# Altium integrated library Linear Technology Power Management PMIC Multifunction.IntLib: 360 symbols (part 4 of 42)
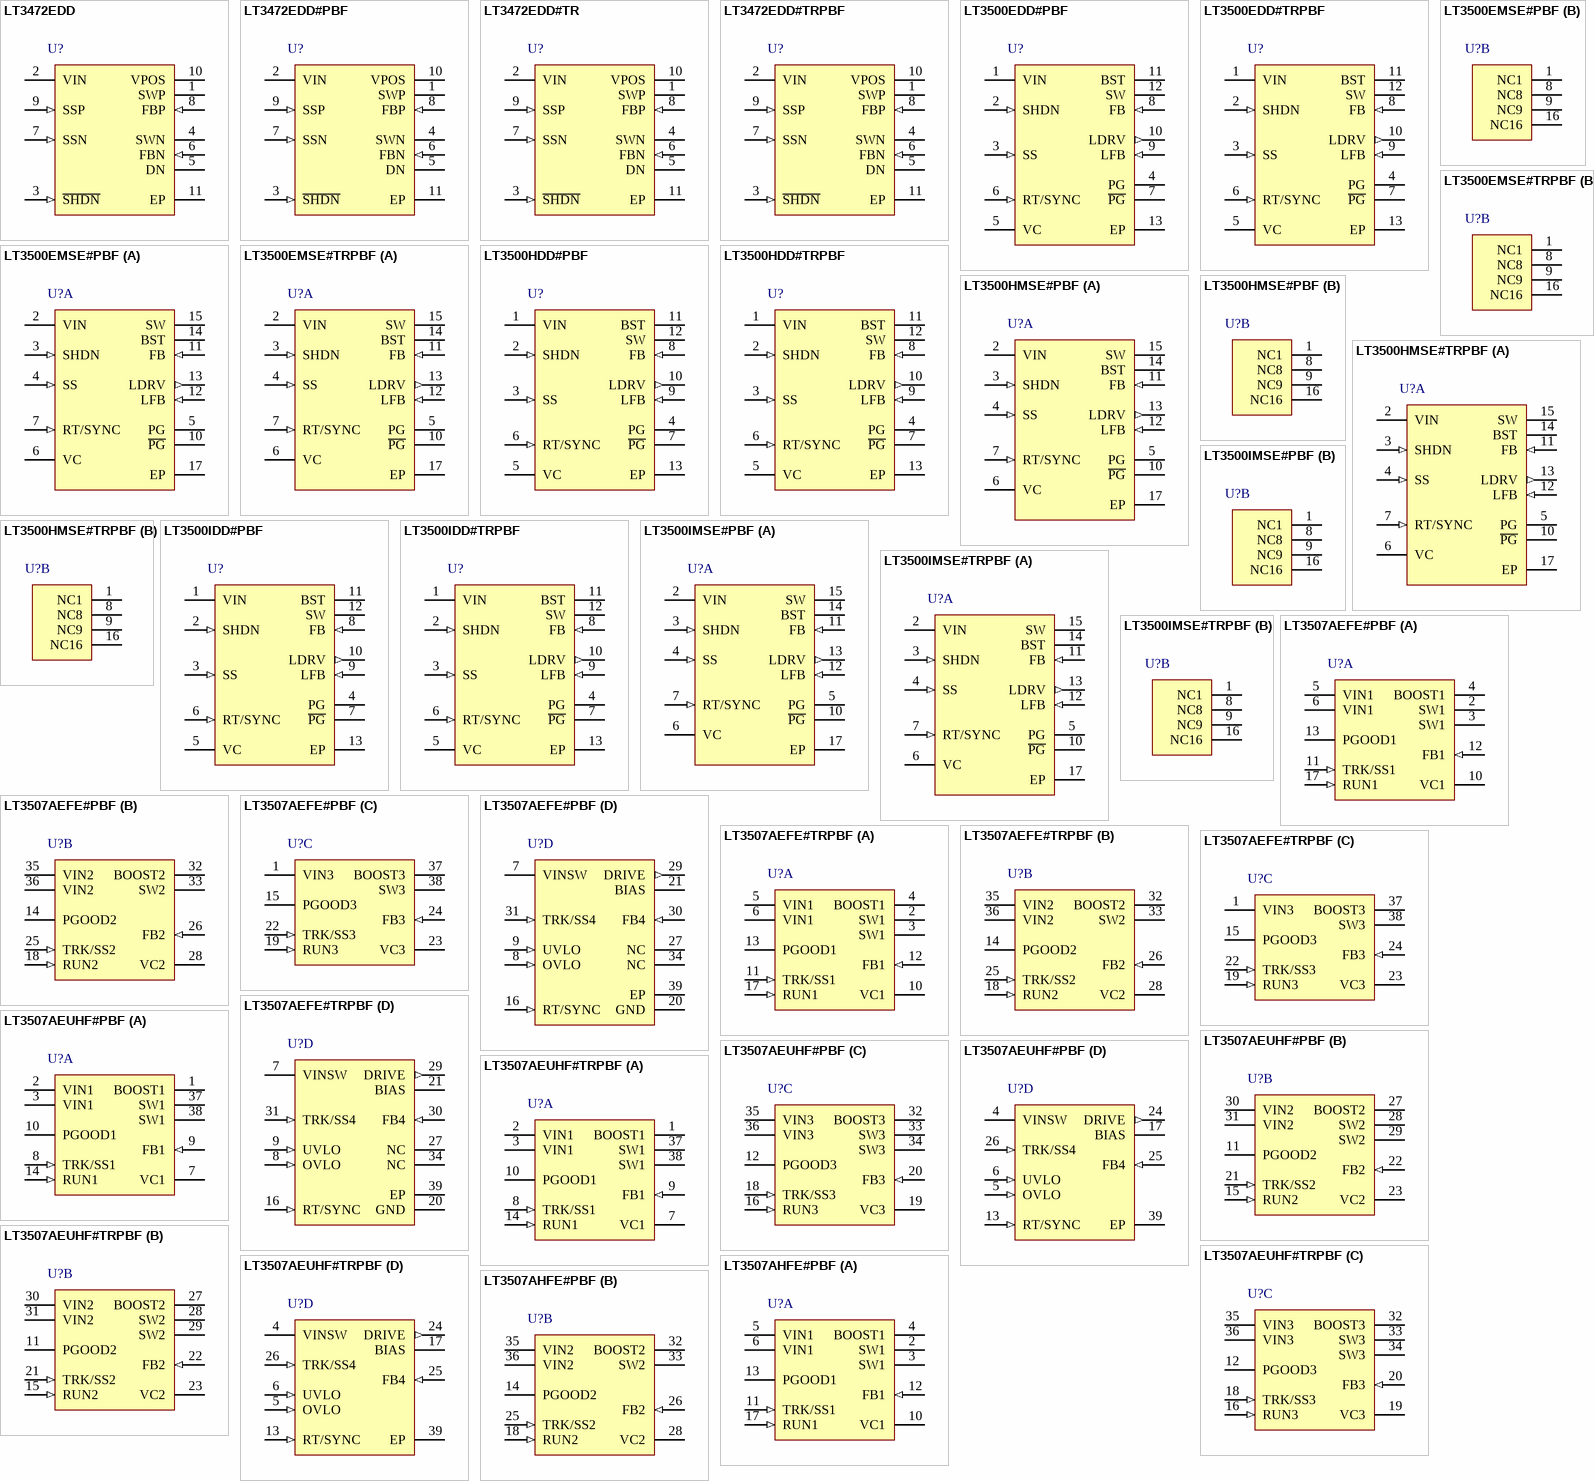
[diagram p21: symbols LT3472EDD to LT3507AHFE#PBF]

## LT3500HMSE#PBF
designator U?
Monolithic 2 A Step-Down Regulator Plus Linear Regulator / Controller, 3 to 36 V Vin, 16-pin SOP (MSE-16-EDP), -40 to 150 degC, Pb-Free; Manufacturer: Linear Technology; PartNumber: LT3500HMSE#PBF; Number of Outputs: 2; Vin Max(V): 36; Vin Min(V): 3; DatasheetVersion: Rev. C; PackageVersion: Rev. F, 05/2013; PackageReference: MSE-16; PackageDescription: 16-Pin Plastic MSOP, Exposed Die Pad, Body 4.039 x 3 mm, Pitch 0.5 mm; Supplier 1: Digi-Key; Supplier Part Number 1: LT3500HMSE#PBF-ND; Supplier 2: Newark; Supplier Part Number 2: 31P7613; RoHS: TRUE; Mounting Technology: Surface Mount; ComponentLink1Description: Manufacturer URL; ComponentLink1URL: http://www.linear.com/; ComponentLink2Description: Datasheet; ComponentLink2URL: http://cds.linear.com/docs/en/datasheet/3500fc.pdf; ComponentLink3Description: Package Specification; ComponentLink3URL: http://cds.linear.com/docs/en/packaging/05081667_F_MSE16.pdf
footprint LT-MSE-16-EDP_N (SOP, 16-Leads, Body 4.1x3.1mm, Pitch 0.5mm, Thermal Pad 2.95x1.76mm, IPC Medium Density)
footprint LT-MSE-16-EDP_L (SOP, 16-Leads, Body 4.1x3.1mm, Pitch 0.5mm, Thermal Pad 2.95x1.76mm, IPC High Density)
footprint LT-MSE-16-EDP_M (SOP, 16-Leads, Body 4.1x3.1mm, Pitch 0.5mm, Thermal Pad 2.95x1.76mm, IPC Low Density)
part A pins: 2 VIN (power) "The VIN pin powers the internal control circuitry and is monitored by an undervoltage comparator. The VIN pin is also connected to the collectors of the internal power NPN switch and linear output NPN. The VIN pin has high (See Datasheet)", 3 SHDN (in) "The SHDN pin is used to shut down the LT3500 and reduce quiescent current to a typical value of 12uA. The accurate 0.76V threshold and input current hysteresis can be used as an undervoltage lockout, preventing the regulator (See Datasheet)", 4 SS (in) "The SS pin is used to control the slew rate of the output of both the switching and linear regulators. A single capacitor from the SS pin to ground determines the regulators?ramp rate. For soft-start details see th(See Datasheet)", 5 PG (oc) "The power good pin is an open-collector output that sinks current when the FB or LFB falls below 90% of its nominal regulating voltage. For VIN above 2V, its output state remains true, although during SHDN, VIN undervoltage (See Datasheet)", 6 VC "The VC pin is the output of the error amplifier and the input to the peak switch current comparator. It is normally used for frequency compensation, but can also be used as a current clamp or control loop override. If the (See Datasheet)", 7 RT/SYNC (in) "This RT/SYNC pin provides two modes of setting the constant switch frequency. Connecting a resistor from the RT/SYNC pin to ground will set the RT/SYNC pin to a typical value of 1V. The resultant switching frequency will be (See Datasheet)", 10 ~{PG} (oc) "The power good bar pin is an open-collector output that sinks current when the FB or LFB rises above 90% of its nominal regulating voltage.", 11 FB (in) "The FB pin is the negative input to the switcher error amplifier. The output switches to regulate this pin to 0.8V with respect to the exposed ground pad. Bias current flows out of the FB pin.", 12 LFB (in) "The LFB pin is the negative input to the linear error amplifier. The LDRV pin servo’s to regulate this pin to 0.8V with respect to the exposed ground pad. Bias current flows out of the LFB pin.", 13 LDRV (out) "The LDRV pin is the emitter of an internal NPN that can be confi gured as an output of a linear regulator or as the drive for an external NPN high current regulator. Current flows out of the LDRV pin when the LFB pin voltage (See Datasheet)", 14 BST "The BST pin provides a higher than VIN base drive to the power NPN to ensure a low switch drop. A comparator to VIN imposes a minimum off time on the SW pin if the BST pin voltage drops too low. Forcing a SW off time allows (See Datasheet)", 15 SW (power) "The SW pin is the emitter of the on-chip power NPN. At switch off, the inductor will drive this pin below ground with a high dV/dt. An external catch diode to ground, close to the SW pin and respective VIN decoupling (See Datasheet)", 17 EP (power) "GND. The exposed pad is the only ground connection for the device. The exposed pad should be soldered to a large copper area to reduce thermal resistance. The GND pin also serves as small-signal ground. For ideal operation (See Datasheet)"
part B pins: 1 NC1 "No Connection. The NC pins are electrically isolated from the LT3500. The NC pins may be connected to PCB traces to aid PCB layout.", 8 NC8 "No Connection. The NC pins are electrically isolated from the LT3500. The NC pins may be connected to PCB traces to aid PCB layout.", 9 NC9 "No Connection. The NC pins are electrically isolated from the LT3500. The NC pins may be connected to PCB traces to aid PCB layout.", 16 NC16 "No Connection. The NC pins are electrically isolated from the LT3500. The NC pins may be connected to PCB traces to aid PCB layout."

## LT3500HMSE#TRPBF
designator U?
Monolithic 2 A Step-Down Regulator Plus Linear Regulator / Controller, 3 to 36 V Vin, 16-pin SOP (MSE-16-EDP), -40 to 150 degC, Pb-Free, Tape and Reel; Manufacturer: Linear Technology; PartNumber: LT3500HMSE#TRPBF; Number of Outputs: 2; Vin Max(V): 36; Vin Min(V): 3; DatasheetVersion: Rev. C; PackageVersion: Rev. F, 05/2013; PackageReference: MSE-16; PackageDescription: 16-Pin Plastic MSOP, Exposed Die Pad, Body 4.039 x 3 mm, Pitch 0.5 mm; Supplier 1: Digi-Key; Supplier Part Number 1: LT3500HMSE#TRPBF-ND; Packing: Tape and Reel; RoHS: TRUE; Mounting Technology: Surface Mount; ComponentLink1Description: Manufacturer URL; ComponentLink1URL: http://www.linear.com/; ComponentLink2Description: Datasheet; ComponentLink2URL: http://cds.linear.com/docs/en/datasheet/3500fc.pdf; ComponentLink3Description: Package Specification; ComponentLink3URL: http://cds.linear.com/docs/en/packaging/05081667_F_MSE16.pdf
footprint LT-MSE-16-EDP_N (SOP, 16-Leads, Body 4.1x3.1mm, Pitch 0.5mm, Thermal Pad 2.95x1.76mm, IPC Medium Density)
footprint LT-MSE-16-EDP_L (SOP, 16-Leads, Body 4.1x3.1mm, Pitch 0.5mm, Thermal Pad 2.95x1.76mm, IPC High Density)
footprint LT-MSE-16-EDP_M (SOP, 16-Leads, Body 4.1x3.1mm, Pitch 0.5mm, Thermal Pad 2.95x1.76mm, IPC Low Density)
part A pins: 2 VIN (power) "The VIN pin powers the internal control circuitry and is monitored by an undervoltage comparator. The VIN pin is also connected to the collectors of the internal power NPN switch and linear output NPN. The VIN pin has high (See Datasheet)", 3 SHDN (in) "The SHDN pin is used to shut down the LT3500 and reduce quiescent current to a typical value of 12uA. The accurate 0.76V threshold and input current hysteresis can be used as an undervoltage lockout, preventing the regulator (See Datasheet)", 4 SS (in) "The SS pin is used to control the slew rate of the output of both the switching and linear regulators. A single capacitor from the SS pin to ground determines the regulators?ramp rate. For soft-start details see th(See Datasheet)", 5 PG (oc) "The power good pin is an open-collector output that sinks current when the FB or LFB falls below 90% of its nominal regulating voltage. For VIN above 2V, its output state remains true, although during SHDN, VIN undervoltage (See Datasheet)", 6 VC "The VC pin is the output of the error amplifier and the input to the peak switch current comparator. It is normally used for frequency compensation, but can also be used as a current clamp or control loop override. If the (See Datasheet)", 7 RT/SYNC (in) "This RT/SYNC pin provides two modes of setting the constant switch frequency. Connecting a resistor from the RT/SYNC pin to ground will set the RT/SYNC pin to a typical value of 1V. The resultant switching frequency will be (See Datasheet)", 10 ~{PG} (oc) "The power good bar pin is an open-collector output that sinks current when the FB or LFB rises above 90% of its nominal regulating voltage.", 11 FB (in) "The FB pin is the negative input to the switcher error amplifier. The output switches to regulate this pin to 0.8V with respect to the exposed ground pad. Bias current flows out of the FB pin.", 12 LFB (in) "The LFB pin is the negative input to the linear error amplifier. The LDRV pin servo’s to regulate this pin to 0.8V with respect to the exposed ground pad. Bias current flows out of the LFB pin.", 13 LDRV (out) "The LDRV pin is the emitter of an internal NPN that can be confi gured as an output of a linear regulator or as the drive for an external NPN high current regulator. Current flows out of the LDRV pin when the LFB pin voltage (See Datasheet)", 14 BST "The BST pin provides a higher than VIN base drive to the power NPN to ensure a low switch drop. A comparator to VIN imposes a minimum off time on the SW pin if the BST pin voltage drops too low. Forcing a SW off time allows (See Datasheet)", 15 SW (power) "The SW pin is the emitter of the on-chip power NPN. At switch off, the inductor will drive this pin below ground with a high dV/dt. An external catch diode to ground, close to the SW pin and respective VIN decoupling (See Datasheet)", 17 EP (power) "GND. The exposed pad is the only ground connection for the device. The exposed pad should be soldered to a large copper area to reduce thermal resistance. The GND pin also serves as small-signal ground. For ideal operation (See Datasheet)"
part B pins: 1 NC1 "No Connection. The NC pins are electrically isolated from the LT3500. The NC pins may be connected to PCB traces to aid PCB layout.", 8 NC8 "No Connection. The NC pins are electrically isolated from the LT3500. The NC pins may be connected to PCB traces to aid PCB layout.", 9 NC9 "No Connection. The NC pins are electrically isolated from the LT3500. The NC pins may be connected to PCB traces to aid PCB layout.", 16 NC16 "No Connection. The NC pins are electrically isolated from the LT3500. The NC pins may be connected to PCB traces to aid PCB layout."

## LT3500IDD#PBF
designator U?
Monolithic 2 A Step-Down Regulator Plus Linear Regulator / Controller, 3 to 36 V Vin, 12-pin SON (DD-12), -40 to 125 degC, Pb-Free; Manufacturer: Linear Technology; PartNumber: LT3500IDD#PBF; Number of Outputs: 2; Vin Max(V): 36; Vin Min(V): 3; DatasheetVersion: Rev. C; PackageVersion: Rev. A, 06/2010; PackageReference: DD-12; PackageDescription: 12-Pin Plastic DFN, Body 3 x 3 mm, Pitch 0.45 mm; Supplier 1: Digi-Key; Supplier Part Number 1: LT3500IDD#PBF-ND; Supplier 2: Newark; Supplier Part Number 2: 57M8450; RoHS: TRUE; Mounting Technology: Surface Mount; ComponentLink1Description: Manufacturer URL; ComponentLink1URL: http://www.linear.com/; ComponentLink2Description: Datasheet; ComponentLink2URL: http://cds.linear.com/docs/en/datasheet/3500fc.pdf; ComponentLink3Description: Package Specification; ComponentLink3URL: http://cds.linear.com/docs/en/packaging/DFN_12_05-08-1725.pdf
footprint LT-DD-12_V (SON, 12-Leads, Body 3x3mm, Pitch 0.45mm, Thermal Pad 2.38x1.65mm)
pins: 1 VIN (power) "The VIN pin powers the internal control circuitry and is monitored by an undervoltage comparator. The VIN pin is also connected to the collectors of the internal power NPN switch and linear output NPN. The VIN pin has high (See Datasheet)", 2 SHDN (in), 3 SS (in) "The SS pin is used to control the slew rate of the output of both the switching and linear regulators. A single capacitor from the SS pin to ground determines the regulators’ ramp rate. For soft-start details see th(See Datasheet)", 4 PG (oc) "The power good pin is an open-collector output that sinks current when the FB or LFB falls below 90% of its nominal regulating voltage. For VIN above 2V, its output state remains true, although during SHDN, VIN undervoltage (See Datasheet)", 5 VC "The VC pin is the output of the error amplifier and the input to the peak switch current comparator. It is normally used for frequency compensation, but can also be used as a current clamp or control loop override. If the (See Datasheet)", 6 RT/SYNC (in) "This RT/SYNC pin provides two modes of setting the constant switch frequency. Connecting a resistor from the RT/SYNC pin to ground will set the RT/SYNC pin to a typical value of 1V. The resultant switching frequency will be (See Datasheet)", 7 ~{PG} (oc) "The power good bar pin is an open-collector output that sinks current when the FB or LFB rises above 90% of its nominal regulating voltage.", 8 FB (in) "The FB pin is the negative input to the switcher error amplifier. The output switches to regulate this pin to 0.8V with respect to the exposed ground pad. Bias current flows out of the FB pin.", 9 LFB (in) "The LFB pin is the negative input to the linear error amplifier. The LDRV pin servo’s to regulate this pin to 0.8V with respect to the exposed ground pad. Bias current flows out of the LFB pin.", 10 LDRV (out) "The LDRV pin is the emitter of an internal NPN that can be configured as an output of a linear regulator or as the drive for an external NPN high current regulator. Current fl ows out of the LDRV pin when the LFB pin voltage (See Datasheet)", 11 BST "The BST pin provides a higher than VIN base drive to the power NPN to ensure a low switch drop. A comparator to VIN imposes a minimum off time on the SW pin if the BST pin voltage drops too low. Forcing a SW off time allows (See Datasheet)", 12 SW (power) "The SW pin is the emitter of the on-chip power NPN. At switch off, the inductor will drive this pin below ground with a high dV/dt. An external catch diode to ground, close to the SW pin and respective VIN decoupling (See Datasheet)", 13 EP (power) "GND. The Exposed Pad is the only ground connection for the device. The Exposed Pad should be soldered to a large copper area to reduce thermal resistance. The GND pin also serves as small-signal ground. For ideal operation (See Datasheet)"

## LT3500IDD#TRPBF
designator U?
Monolithic 2 A Step-Down Regulator Plus Linear Regulator / Controller, 3 to 36 V Vin, 12-pin SON (DD-12), -40 to 125 degC, Pb-Free, Tape and Reel; Manufacturer: Linear Technology; PartNumber: LT3500IDD#TRPBF; Number of Outputs: 2; Vin Max(V): 36; Vin Min(V): 3; DatasheetVersion: Rev. C; PackageVersion: Rev. A, 06/2010; PackageReference: DD-12; PackageDescription: 12-Pin Plastic DFN, Body 3 x 3 mm, Pitch 0.45 mm; Supplier 1: Digi-Key; Supplier Part Number 1: LT3500IDD#TRPBF-ND; Packing: Tape and Reel; RoHS: TRUE; Mounting Technology: Surface Mount; ComponentLink1Description: Manufacturer URL; ComponentLink1URL: http://www.linear.com/; ComponentLink2Description: Datasheet; ComponentLink2URL: http://cds.linear.com/docs/en/datasheet/3500fc.pdf; ComponentLink3Description: Package Specification; ComponentLink3URL: http://cds.linear.com/docs/en/packaging/DFN_12_05-08-1725.pdf
footprint LT-DD-12_V (SON, 12-Leads, Body 3x3mm, Pitch 0.45mm, Thermal Pad 2.38x1.65mm)
pins: 1 VIN (power) "The VIN pin powers the internal control circuitry and is monitored by an undervoltage comparator. The VIN pin is also connected to the collectors of the internal power NPN switch and linear output NPN. The VIN pin has high (See Datasheet)", 2 SHDN (in), 3 SS (in) "The SS pin is used to control the slew rate of the output of both the switching and linear regulators. A single capacitor from the SS pin to ground determines the regulators’ ramp rate. For soft-start details see th(See Datasheet)", 4 PG (oc) "The power good pin is an open-collector output that sinks current when the FB or LFB falls below 90% of its nominal regulating voltage. For VIN above 2V, its output state remains true, although during SHDN, VIN undervoltage (See Datasheet)", 5 VC "The VC pin is the output of the error amplifier and the input to the peak switch current comparator. It is normally used for frequency compensation, but can also be used as a current clamp or control loop override. If the (See Datasheet)", 6 RT/SYNC (in) "This RT/SYNC pin provides two modes of setting the constant switch frequency. Connecting a resistor from the RT/SYNC pin to ground will set the RT/SYNC pin to a typical value of 1V. The resultant switching frequency will be (See Datasheet)", 7 ~{PG} (oc) "The power good bar pin is an open-collector output that sinks current when the FB or LFB rises above 90% of its nominal regulating voltage.", 8 FB (in) "The FB pin is the negative input to the switcher error amplifier. The output switches to regulate this pin to 0.8V with respect to the exposed ground pad. Bias current flows out of the FB pin.", 9 LFB (in) "The LFB pin is the negative input to the linear error amplifier. The LDRV pin servo’s to regulate this pin to 0.8V with respect to the exposed ground pad. Bias current flows out of the LFB pin.", 10 LDRV (out) "The LDRV pin is the emitter of an internal NPN that can be configured as an output of a linear regulator or as the drive for an external NPN high current regulator. Current fl ows out of the LDRV pin when the LFB pin voltage (See Datasheet)", 11 BST "The BST pin provides a higher than VIN base drive to the power NPN to ensure a low switch drop. A comparator to VIN imposes a minimum off time on the SW pin if the BST pin voltage drops too low. Forcing a SW off time allows (See Datasheet)", 12 SW (power) "The SW pin is the emitter of the on-chip power NPN. At switch off, the inductor will drive this pin below ground with a high dV/dt. An external catch diode to ground, close to the SW pin and respective VIN decoupling (See Datasheet)", 13 EP (power) "GND. The Exposed Pad is the only ground connection for the device. The Exposed Pad should be soldered to a large copper area to reduce thermal resistance. The GND pin also serves as small-signal ground. For ideal operation (See Datasheet)"

## LT3500IMSE#PBF
designator U?
Monolithic 2 A Step-Down Regulator Plus Linear Regulator / Controller, 3 to 36 V Vin, 16-pin SOP (MSE-16-EDP), -40 to 125 degC, Pb-Free; Manufacturer: Linear Technology; PartNumber: LT3500IMSE#PBF; Number of Outputs: 2; Vin Max(V): 36; Vin Min(V): 3; DatasheetVersion: Rev. C; PackageVersion: Rev. F, 05/2013; PackageReference: MSE-16; PackageDescription: 16-Pin Plastic MSOP, Exposed Die Pad, Body 4.039 x 3 mm, Pitch 0.5 mm; Supplier 1: Digi-Key; Supplier Part Number 1: LT3500IMSE#PBF-ND; Supplier 2: Newark; Supplier Part Number 2: 31P7615; RoHS: TRUE; Mounting Technology: Surface Mount; ComponentLink1Description: Manufacturer URL; ComponentLink1URL: http://www.linear.com/; ComponentLink2Description: Datasheet; ComponentLink2URL: http://cds.linear.com/docs/en/datasheet/3500fc.pdf; ComponentLink3Description: Package Specification; ComponentLink3URL: http://cds.linear.com/docs/en/packaging/05081667_F_MSE16.pdf
footprint LT-MSE-16-EDP_N (SOP, 16-Leads, Body 4.1x3.1mm, Pitch 0.5mm, Thermal Pad 2.95x1.76mm, IPC Medium Density)
footprint LT-MSE-16-EDP_L (SOP, 16-Leads, Body 4.1x3.1mm, Pitch 0.5mm, Thermal Pad 2.95x1.76mm, IPC High Density)
footprint LT-MSE-16-EDP_M (SOP, 16-Leads, Body 4.1x3.1mm, Pitch 0.5mm, Thermal Pad 2.95x1.76mm, IPC Low Density)
part A pins: 2 VIN (power) "The VIN pin powers the internal control circuitry and is monitored by an undervoltage comparator. The VIN pin is also connected to the collectors of the internal power NPN switch and linear output NPN. The VIN pin has high (See Datasheet)", 3 SHDN (in) "The SHDN pin is used to shut down the LT3500 and reduce quiescent current to a typical value of 12uA. The accurate 0.76V threshold and input current hysteresis can be used as an undervoltage lockout, preventing the regulator (See Datasheet)", 4 SS (in) "The SS pin is used to control the slew rate of the output of both the switching and linear regulators. A single capacitor from the SS pin to ground determines the regulators?ramp rate. For soft-start details see th(See Datasheet)", 5 PG (oc) "The power good pin is an open-collector output that sinks current when the FB or LFB falls below 90% of its nominal regulating voltage. For VIN above 2V, its output state remains true, although during SHDN, VIN undervoltage (See Datasheet)", 6 VC "The VC pin is the output of the error amplifier and the input to the peak switch current comparator. It is normally used for frequency compensation, but can also be used as a current clamp or control loop override. If the (See Datasheet)", 7 RT/SYNC (in) "This RT/SYNC pin provides two modes of setting the constant switch frequency. Connecting a resistor from the RT/SYNC pin to ground will set the RT/SYNC pin to a typical value of 1V. The resultant switching frequency will be (See Datasheet)", 10 ~{PG} (oc) "The power good bar pin is an open-collector output that sinks current when the FB or LFB rises above 90% of its nominal regulating voltage.", 11 FB (in) "The FB pin is the negative input to the switcher error amplifier. The output switches to regulate this pin to 0.8V with respect to the exposed ground pad. Bias current flows out of the FB pin.", 12 LFB (in) "The LFB pin is the negative input to the linear error amplifier. The LDRV pin servo’s to regulate this pin to 0.8V with respect to the exposed ground pad. Bias current flows out of the LFB pin.", 13 LDRV (out) "The LDRV pin is the emitter of an internal NPN that can be confi gured as an output of a linear regulator or as the drive for an external NPN high current regulator. Current flows out of the LDRV pin when the LFB pin voltage (See Datasheet)", 14 BST "The BST pin provides a higher than VIN base drive to the power NPN to ensure a low switch drop. A comparator to VIN imposes a minimum off time on the SW pin if the BST pin voltage drops too low. Forcing a SW off time allows (See Datasheet)", 15 SW (power) "The SW pin is the emitter of the on-chip power NPN. At switch off, the inductor will drive this pin below ground with a high dV/dt. An external catch diode to ground, close to the SW pin and respective VIN decoupling (See Datasheet)", 17 EP (power) "GND. The exposed pad is the only ground connection for the device. The exposed pad should be soldered to a large copper area to reduce thermal resistance. The GND pin also serves as small-signal ground. For ideal operation (See Datasheet)"
part B pins: 1 NC1 "No Connection. The NC pins are electrically isolated from the LT3500. The NC pins may be connected to PCB traces to aid PCB layout.", 8 NC8 "No Connection. The NC pins are electrically isolated from the LT3500. The NC pins may be connected to PCB traces to aid PCB layout.", 9 NC9 "No Connection. The NC pins are electrically isolated from the LT3500. The NC pins may be connected to PCB traces to aid PCB layout.", 16 NC16 "No Connection. The NC pins are electrically isolated from the LT3500. The NC pins may be connected to PCB traces to aid PCB layout."

## LT3500IMSE#TRPBF
designator U?
Monolithic 2 A Step-Down Regulator Plus Linear Regulator / Controller, 3 to 36 V Vin, 16-pin SOP (MSE-16-EDP), -40 to 125 degC, Pb-Free, Tape and Reel; Manufacturer: Linear Technology; PartNumber: LT3500IMSE#TRPBF; Number of Outputs: 2; Vin Max(V): 36; Vin Min(V): 3; DatasheetVersion: Rev. C; PackageVersion: Rev. F, 05/2013; PackageReference: MSE-16; PackageDescription: 16-Pin Plastic MSOP, Exposed Die Pad, Body 4.039 x 3 mm, Pitch 0.5 mm; Supplier 1: Digi-Key; Supplier Part Number 1: LT3500IMSE#TRPBF-ND; Packing: Tape and Reel; RoHS: TRUE; Mounting Technology: Surface Mount; ComponentLink1Description: Manufacturer URL; ComponentLink1URL: http://www.linear.com/; ComponentLink2Description: Datasheet; ComponentLink2URL: http://cds.linear.com/docs/en/datasheet/3500fc.pdf; ComponentLink3Description: Package Specification; ComponentLink3URL: http://cds.linear.com/docs/en/packaging/05081667_F_MSE16.pdf
footprint LT-MSE-16-EDP_N (SOP, 16-Leads, Body 4.1x3.1mm, Pitch 0.5mm, Thermal Pad 2.95x1.76mm, IPC Medium Density)
footprint LT-MSE-16-EDP_L (SOP, 16-Leads, Body 4.1x3.1mm, Pitch 0.5mm, Thermal Pad 2.95x1.76mm, IPC High Density)
footprint LT-MSE-16-EDP_M (SOP, 16-Leads, Body 4.1x3.1mm, Pitch 0.5mm, Thermal Pad 2.95x1.76mm, IPC Low Density)
part A pins: 2 VIN (power) "The VIN pin powers the internal control circuitry and is monitored by an undervoltage comparator. The VIN pin is also connected to the collectors of the internal power NPN switch and linear output NPN. The VIN pin has high (See Datasheet)", 3 SHDN (in) "The SHDN pin is used to shut down the LT3500 and reduce quiescent current to a typical value of 12uA. The accurate 0.76V threshold and input current hysteresis can be used as an undervoltage lockout, preventing the regulator (See Datasheet)", 4 SS (in) "The SS pin is used to control the slew rate of the output of both the switching and linear regulators. A single capacitor from the SS pin to ground determines the regulators?ramp rate. For soft-start details see th(See Datasheet)", 5 PG (oc) "The power good pin is an open-collector output that sinks current when the FB or LFB falls below 90% of its nominal regulating voltage. For VIN above 2V, its output state remains true, although during SHDN, VIN undervoltage (See Datasheet)", 6 VC "The VC pin is the output of the error amplifier and the input to the peak switch current comparator. It is normally used for frequency compensation, but can also be used as a current clamp or control loop override. If the (See Datasheet)", 7 RT/SYNC (in) "This RT/SYNC pin provides two modes of setting the constant switch frequency. Connecting a resistor from the RT/SYNC pin to ground will set the RT/SYNC pin to a typical value of 1V. The resultant switching frequency will be (See Datasheet)", 10 ~{PG} (oc) "The power good bar pin is an open-collector output that sinks current when the FB or LFB rises above 90% of its nominal regulating voltage.", 11 FB (in) "The FB pin is the negative input to the switcher error amplifier. The output switches to regulate this pin to 0.8V with respect to the exposed ground pad. Bias current flows out of the FB pin.", 12 LFB (in) "The LFB pin is the negative input to the linear error amplifier. The LDRV pin servo’s to regulate this pin to 0.8V with respect to the exposed ground pad. Bias current flows out of the LFB pin.", 13 LDRV (out) "The LDRV pin is the emitter of an internal NPN that can be confi gured as an output of a linear regulator or as the drive for an external NPN high current regulator. Current flows out of the LDRV pin when the LFB pin voltage (See Datasheet)", 14 BST "The BST pin provides a higher than VIN base drive to the power NPN to ensure a low switch drop. A comparator to VIN imposes a minimum off time on the SW pin if the BST pin voltage drops too low. Forcing a SW off time allows (See Datasheet)", 15 SW (power) "The SW pin is the emitter of the on-chip power NPN. At switch off, the inductor will drive this pin below ground with a high dV/dt. An external catch diode to ground, close to the SW pin and respective VIN decoupling (See Datasheet)", 17 EP (power) "GND. The exposed pad is the only ground connection for the device. The exposed pad should be soldered to a large copper area to reduce thermal resistance. The GND pin also serves as small-signal ground. For ideal operation (See Datasheet)"
part B pins: 1 NC1 "No Connection. The NC pins are electrically isolated from the LT3500. The NC pins may be connected to PCB traces to aid PCB layout.", 8 NC8 "No Connection. The NC pins are electrically isolated from the LT3500. The NC pins may be connected to PCB traces to aid PCB layout.", 9 NC9 "No Connection. The NC pins are electrically isolated from the LT3500. The NC pins may be connected to PCB traces to aid PCB layout.", 16 NC16 "No Connection. The NC pins are electrically isolated from the LT3500. The NC pins may be connected to PCB traces to aid PCB layout."

## LT3507AEFE#PBF
designator U?
Triple Monolithic Step-Down Regulator with LDO, Improved Output Current, 4 to 36 V Vin, 38-pin SOP (FE-38-EPV-AA), -40 to 125 degC, Pb-Free; Manufacturer: Linear Technology; PartNumber: LT3507AEFE#PBF; Number of Outputs: 4; Vin Max(V): 36; PackageVersion: Rev. C, 09/2010; PackageReference: FE-38; PackageDescription: 38-Pin Plastic TSSOP, Body 9.7 x 4.4 mm, Pitch 0.5 mm; Supplier 1: Digi-Key; Supplier Part Number 1: LT3507AEFE#PBF-ND; Supplier 2: Farnell; Supplier Part Number 2: 2009065; Supplier 3: Newark; Supplier Part Number 3: 59T9377; RoHS: TRUE; Vin Min(V): 4; Mounting Technology: Surface Mount; ComponentLink1Description: Manufacturer URL; ComponentLink1URL: http://www.linear.com/; ComponentLink2Description: Datasheet; ComponentLink2URL: http://cds.linear.com/docs/en/datasheet/3507af.pdf; ComponentLink3Description: Package Specification; ComponentLink3URL: http://cds.linear.com/docs/en/packaging/TSSOP_38_05-08-1772.pdf
footprint LT-FE-38-EPV-AA_N (SOP, 38-Leads, Body 9.8x4.5mm, Pitch 0.5mm, Thermal Pad 4.75x2.74mm, IPC Medium Density)
footprint LT-FE-38-EPV-AA_L (SOP, 38-Leads, Body 9.8x4.5mm, Pitch 0.5mm, Thermal Pad 4.75x2.74mm, IPC High Density)
footprint LT-FE-38-EPV-AA_M (SOP, 38-Leads, Body 9.8x4.5mm, Pitch 0.5mm, Thermal Pad 4.75x2.74mm, IPC Low Density)
part A pins: 2 SW1 (power) "The SW pins are the outputs of the internal power switches. Connect these pins to the inductors and switching diodes", 3 SW1 (power) "The SW pins are the outputs of the internal power switches. Connect these pins to the inductors and switching diodes", 4 BOOST1 "The BOOST pins are used to provide drive voltages, higher than the input voltage, to the internal bipolar NPN power switches. These pins must be tied through a diode from VOUT, VIN or another supply greater than 2.5V.", 5 VIN1 (power) "The VIN1 pins supply power to the internal switch of the 2.7A regulator and to the LT3507A’s internal reference and start-up circuitry. These pins must be locally bypassed.", 6 VIN1 (power) "The VIN1 pins supply power to the internal switch of the 2.7A regulator and to the LT3507A’s internal reference and start-up circuitry. These pins must be locally bypassed.", 10 VC1 "The VC pins are the outputs of the internal error amps. The voltages on these pins control the peak switch currents. These pins are normally used to compensate the control loops. Each switching regulator can be shut down by (See Datasheet)", 11 TRK/SS1 (in) "The TRK/SS pins allow a regulator to track the output of another regulator. When the TRK/SS pin is below 0.8V, the FB pin regulates to the TRK/SS voltage. This pin souces 1.25uA and can be used as a soft-start by connecting (See Datasheet)", 12 FB1 (in) "The FB pins are the negative inputs of the error amplifiers. The LT3507A regulates each feedback pin to the lesser of 0.8V or the TRK/SS pin voltage. Connect the feedback resistor divider taps to these pins", 13 PGOOD1 (hiz) "The PGOOD pins are the open-collector outputs of an internal comparator. PGOOD remains low until the FB pin is within 10% of the final regulation voltage. As well as indicating output regulation, the PGOOD pins can sequence (See Datasheet)", 17 RUN1 (in) "The RUN pins are used to shut down the individual switching regulators. When all three RUN pins are low, the LT3507A shuts down and draws less than 1uA from VIN1."
part B pins: 14 PGOOD2 (hiz) "The PGOOD pins are the open-collector outputs of an internal comparator. PGOOD remains low until the FB pin is within 10% of the final regulation voltage. As well as indicating output regulation, the PGOOD pins can sequence (See Datasheet)", 18 RUN2 (in) "The RUN pins are used to shut down the individual switching regulators. When all three RUN pins are low, the LT3507A shuts down and draws less than 1uA from VIN1.", 25 TRK/SS2 (in) "The TRK/SS pins allow a regulator to track the output of another regulator. When the TRK/SS pin is below 0.8V, the FB pin regulates to the TRK/SS voltage. This pin souces 1.25uA and can be used as a soft-start by connecting (See Datasheet)", 26 FB2 (in) "The FB pins are the negative inputs of the error amplifiers. The LT3507A regulates each feedback pin to the lesser of 0.8V or the TRK/SS pin voltage. Connect the feedback resistor divider taps to these pins.", 28 VC2 "The VC pins are the outputs of the internal error amps. The voltages on these pins control the peak switch currents. These pins are normally used to compensate the control loops. Each switching regulator can be shut down by (See Datasheet)", 32 BOOST2 "The BOOST pins are used to provide drive voltages, higher than the input voltage, to the internal bipolar NPN power switches. These pins must be tied through a diode from VOUT, VIN or another supply greater than 2.5V.", 33 SW2 (power) "The SW pins are the outputs of the internal power switches. Connect these pins to the inductors and switching diodes", 35 VIN2 (power) "The VIN2 and VIN3 pins supply power to the internal switches of the 1.8A converters. These pins must be locally bypassed.", 36 VIN2 (power) "The VIN2 and VIN3 pins supply power to the internal switches of the 1.8A converters. These pins must be locally bypassed."
part C pins: 1 VIN3 (power) "The VIN2 and VIN3 pins supply power to the internal switches of the 1.8A converters. These pins must be locally bypassed.", 15 PGOOD3 (hiz) "The PGOOD pins are the open-collector outputs of an internal comparator. PGOOD remains low until the FB pin is within 10% of the final regulation voltage. As well as indicating output regulation, the PGOOD pins can sequence (See Datasheet)", 19 RUN3 (in) "The RUN pins are used to shut down the individual switching regulators. When all three RUN pins are low, the LT3507A shuts down and draws less than 1uA from VIN1.", 22 TRK/SS3 (in) "The TRK/SS pins allow a regulator to track the output of another regulator. When the TRK/SS pin is below 0.8V, the FB pin regulates to the TRK/SS voltage. This pin souces 1.25uA and can be used as a soft-start by connecting (See Datasheet)", 23 VC3 "The VC pins are the outputs of the internal error amps. The voltages on these pins control the peak switch currents. These pins are normally used to compensate the control loops. Each switching regulator can be shut down by (See Datasheet)", 24 FB3 (in) "The FB pins are the negative inputs of the error amplifiers. The LT3507A regulates each feedback pin to the lesser of 0.8V or the TRK/SS pin voltage. Connect the feedback resistor divider taps to these pins", 37 BOOST3 "The BOOST pins are used to provide drive voltages, higher than the input voltage, to the internal bipolar NPN power switches. These pins must be tied through a diode from VOUT, VIN or another supply greater than 2.5V.", 38 SW3 (power) "The SW pins are the outputs of the internal power switches. Connect these pins to the inductors and switching diodes"
part D pins: 7 VINSW (power) "The VINSW pin is a switched VIN1 for the user programmable undervoltage and overvoltage detection. It is connected to VIN1 when any of the RUN pins are pulled high, and high impedance when all RUN pins are low or open.", 8 OVLO (in) "The LT3507A goes into overvoltage shutdown when this pin goes above 1.2V. If unused, the OVLO pin should be tied to GND.", 9 UVLO (in) "The LT3507A goes into undervoltage shutdown when this pin drops below 1.2V. If unused, the UVLO pin should be tied to VINSW.", 16 RT/SYNC (in) "The RT/SYNC pin requires a resistor to ground or a clock signal to set the operating frequency of the LT3507A.", 20 GND (power) "Ground. The underside exposed pad metal of the package provides both electrical contact to ground and good thermal contact to the printed circuit board. The exposed pad must be soldered to a grounded pad on the circuit board (See Datasheet)", 21 BIAS (power) "The BIAS pin supplies the current to the LT3507A’s internal regulator. This pin should be tied to the lowest available voltage source above 3V (either VIN, VOUT or any other available supply). The LDO pass transistor?(See Datasheet)", 27 NC, 29 DRIVE (out) "The DRIVE pin provides the base drive for an external NPN transistor used for the LDO regulator.", 30 FB4 (in) "The FB4 pin is the negative input to the LDO error amplifier. It is regulated to 0.8V through the LDO feedback resistor divider.", 31 TRK/SS4 (in) "The TRK/SS pins allow a regulator to track the output of another regulator. When the TRK/SS pin is below 0.8V, the FB pin regulates to the TRK/SS voltage. This pin souces 1.25uA and can be used as a soft-start by connecting (See Datasheet)", 34 NC, 39 EP (power) "Ground. The underside exposed pad metal of the package provides both electrical contact to ground and good thermal contact to the printed circuit board. The exposed pad must be soldered to a grounded pad on the circuit board (See Datasheet)"

## LT3507AEFE#TRPBF
designator U?
Triple Monolithic Step-Down Regulator with LDO, Improved Output Current, 4 to 36 V Vin, 38-pin SOP (FE-38-EPV-AA), -40 to 125 degC, Pb-Free, Tape and Reel; Manufacturer: Linear Technology; PartNumber: LT3507AEFE#TRPBF; Number of Outputs: 4; Vin Max(V): 36; PackageVersion: Rev. C, 09/2010; PackageReference: FE-38; PackageDescription: 38-Pin Plastic TSSOP, Body 9.7 x 4.4 mm, Pitch 0.5 mm; Supplier 1: Digi-Key; Supplier Part Number 1: LT3507AEFE#TRPBF-ND; Packing: Tape and Reel; RoHS: TRUE; Vin Min(V): 4; Mounting Technology: Surface Mount; ComponentLink1Description: Manufacturer URL; ComponentLink1URL: http://www.linear.com/; ComponentLink2Description: Datasheet; ComponentLink2URL: http://cds.linear.com/docs/en/datasheet/3507af.pdf; ComponentLink3Description: Package Specification; ComponentLink3URL: http://cds.linear.com/docs/en/packaging/TSSOP_38_05-08-1772.pdf
footprint LT-FE-38-EPV-AA_N (SOP, 38-Leads, Body 9.8x4.5mm, Pitch 0.5mm, Thermal Pad 4.75x2.74mm, IPC Medium Density)
footprint LT-FE-38-EPV-AA_L (SOP, 38-Leads, Body 9.8x4.5mm, Pitch 0.5mm, Thermal Pad 4.75x2.74mm, IPC High Density)
footprint LT-FE-38-EPV-AA_M (SOP, 38-Leads, Body 9.8x4.5mm, Pitch 0.5mm, Thermal Pad 4.75x2.74mm, IPC Low Density)
part A pins: 2 SW1 (power) "The SW pins are the outputs of the internal power switches. Connect these pins to the inductors and switching diodes", 3 SW1 (power) "The SW pins are the outputs of the internal power switches. Connect these pins to the inductors and switching diodes", 4 BOOST1 "The BOOST pins are used to provide drive voltages, higher than the input voltage, to the internal bipolar NPN power switches. These pins must be tied through a diode from VOUT, VIN or another supply greater than 2.5V.", 5 VIN1 (power) "The VIN1 pins supply power to the internal switch of the 2.7A regulator and to the LT3507A’s internal reference and start-up circuitry. These pins must be locally bypassed.", 6 VIN1 (power) "The VIN1 pins supply power to the internal switch of the 2.7A regulator and to the LT3507A’s internal reference and start-up circuitry. These pins must be locally bypassed.", 10 VC1 "The VC pins are the outputs of the internal error amps. The voltages on these pins control the peak switch currents. These pins are normally used to compensate the control loops. Each switching regulator can be shut down by (See Datasheet)", 11 TRK/SS1 (in) "The TRK/SS pins allow a regulator to track the output of another regulator. When the TRK/SS pin is below 0.8V, the FB pin regulates to the TRK/SS voltage. This pin souces 1.25uA and can be used as a soft-start by connecting (See Datasheet)", 12 FB1 (in) "The FB pins are the negative inputs of the error amplifiers. The LT3507A regulates each feedback pin to the lesser of 0.8V or the TRK/SS pin voltage. Connect the feedback resistor divider taps to these pins", 13 PGOOD1 (hiz) "The PGOOD pins are the open-collector outputs of an internal comparator. PGOOD remains low until the FB pin is within 10% of the final regulation voltage. As well as indicating output regulation, the PGOOD pins can sequence (See Datasheet)", 17 RUN1 (in) "The RUN pins are used to shut down the individual switching regulators. When all three RUN pins are low, the LT3507A shuts down and draws less than 1uA from VIN1."
part B pins: 14 PGOOD2 (hiz) "The PGOOD pins are the open-collector outputs of an internal comparator. PGOOD remains low until the FB pin is within 10% of the final regulation voltage. As well as indicating output regulation, the PGOOD pins can sequence (See Datasheet)", 18 RUN2 (in) "The RUN pins are used to shut down the individual switching regulators. When all three RUN pins are low, the LT3507A shuts down and draws less than 1uA from VIN1.", 25 TRK/SS2 (in) "The TRK/SS pins allow a regulator to track the output of another regulator. When the TRK/SS pin is below 0.8V, the FB pin regulates to the TRK/SS voltage. This pin souces 1.25uA and can be used as a soft-start by connecting (See Datasheet)", 26 FB2 (in) "The FB pins are the negative inputs of the error amplifiers. The LT3507A regulates each feedback pin to the lesser of 0.8V or the TRK/SS pin voltage. Connect the feedback resistor divider taps to these pins.", 28 VC2 "The VC pins are the outputs of the internal error amps. The voltages on these pins control the peak switch currents. These pins are normally used to compensate the control loops. Each switching regulator can be shut down by (See Datasheet)", 32 BOOST2 "The BOOST pins are used to provide drive voltages, higher than the input voltage, to the internal bipolar NPN power switches. These pins must be tied through a diode from VOUT, VIN or another supply greater than 2.5V.", 33 SW2 (power) "The SW pins are the outputs of the internal power switches. Connect these pins to the inductors and switching diodes", 35 VIN2 (power) "The VIN2 and VIN3 pins supply power to the internal switches of the 1.8A converters. These pins must be locally bypassed.", 36 VIN2 (power) "The VIN2 and VIN3 pins supply power to the internal switches of the 1.8A converters. These pins must be locally bypassed."
part C pins: 1 VIN3 (power) "The VIN2 and VIN3 pins supply power to the internal switches of the 1.8A converters. These pins must be locally bypassed.", 15 PGOOD3 (hiz) "The PGOOD pins are the open-collector outputs of an internal comparator. PGOOD remains low until the FB pin is within 10% of the final regulation voltage. As well as indicating output regulation, the PGOOD pins can sequence (See Datasheet)", 19 RUN3 (in) "The RUN pins are used to shut down the individual switching regulators. When all three RUN pins are low, the LT3507A shuts down and draws less than 1uA from VIN1.", 22 TRK/SS3 (in) "The TRK/SS pins allow a regulator to track the output of another regulator. When the TRK/SS pin is below 0.8V, the FB pin regulates to the TRK/SS voltage. This pin souces 1.25uA and can be used as a soft-start by connecting (See Datasheet)", 23 VC3 "The VC pins are the outputs of the internal error amps. The voltages on these pins control the peak switch currents. These pins are normally used to compensate the control loops. Each switching regulator can be shut down by (See Datasheet)", 24 FB3 (in) "The FB pins are the negative inputs of the error amplifiers. The LT3507A regulates each feedback pin to the lesser of 0.8V or the TRK/SS pin voltage. Connect the feedback resistor divider taps to these pins", 37 BOOST3 "The BOOST pins are used to provide drive voltages, higher than the input voltage, to the internal bipolar NPN power switches. These pins must be tied through a diode from VOUT, VIN or another supply greater than 2.5V.", 38 SW3 (power) "The SW pins are the outputs of the internal power switches. Connect these pins to the inductors and switching diodes"
part D pins: 7 VINSW (power) "The VINSW pin is a switched VIN1 for the user programmable undervoltage and overvoltage detection. It is connected to VIN1 when any of the RUN pins are pulled high, and high impedance when all RUN pins are low or open.", 8 OVLO (in) "The LT3507A goes into overvoltage shutdown when this pin goes above 1.2V. If unused, the OVLO pin should be tied to GND.", 9 UVLO (in) "The LT3507A goes into undervoltage shutdown when this pin drops below 1.2V. If unused, the UVLO pin should be tied to VINSW.", 16 RT/SYNC (in) "The RT/SYNC pin requires a resistor to ground or a clock signal to set the operating frequency of the LT3507A.", 20 GND (power) "Ground. The underside exposed pad metal of the package provides both electrical contact to ground and good thermal contact to the printed circuit board. The exposed pad must be soldered to a grounded pad on the circuit board (See Datasheet)", 21 BIAS (power) "The BIAS pin supplies the current to the LT3507A’s internal regulator. This pin should be tied to the lowest available voltage source above 3V (either VIN, VOUT or any other available supply). The LDO pass transistor?(See Datasheet)", 27 NC, 29 DRIVE (out) "The DRIVE pin provides the base drive for an external NPN transistor used for the LDO regulator.", 30 FB4 (in) "The FB4 pin is the negative input to the LDO error amplifier. It is regulated to 0.8V through the LDO feedback resistor divider.", 31 TRK/SS4 (in) "The TRK/SS pins allow a regulator to track the output of another regulator. When the TRK/SS pin is below 0.8V, the FB pin regulates to the TRK/SS voltage. This pin souces 1.25uA and can be used as a soft-start by connecting (See Datasheet)", 34 NC, 39 EP (power) "Ground. The underside exposed pad metal of the package provides both electrical contact to ground and good thermal contact to the printed circuit board. The exposed pad must be soldered to a grounded pad on the circuit board (See Datasheet)"